# EAGLE library part AFERO-BL24-01 (library ASR-1)
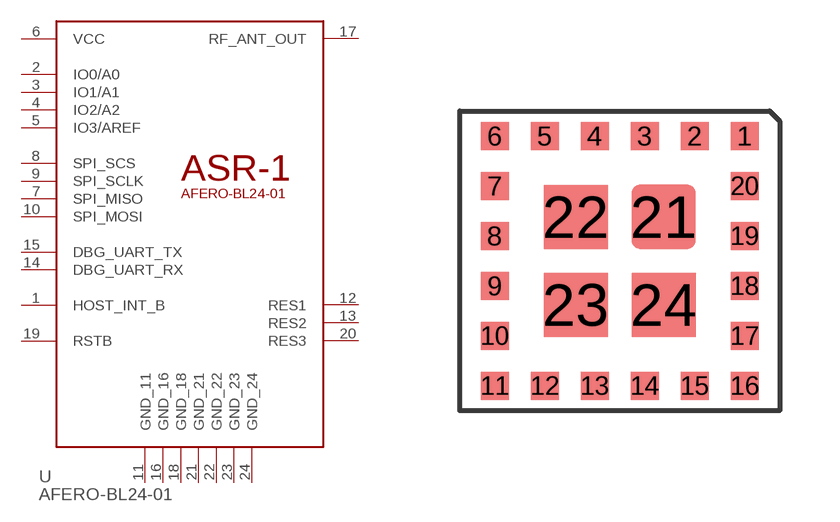
[diagram p0: symbol with the pads of AFERO-BL24-01; footprint AFERO-BL24-01]

Designator prefix -

## AFERO-BL24-01ASR-1  [AFERO-BL24-01]
1  HOST_INT_B
2  IO0/A0
3  IO1/A1
4  IO2/A2
5  IO3/AREF
6  VCC  pwr
7  SPI_MISO
8  SPI_SCS
9  SPI_SCLK
10  SPI_MOSI
11  GND_11  pwr
12  RES1
13  RES2
14  DBG_UART_RX
15  DBG_UART_TX
16  GND_16  pwr
17  RF_ANT_OUT
18  GND_18  pwr
19  RSTB
20  RES3
21  GND_21  pwr
22  GND_22  pwr
23  GND_23  pwr
24  GND_24  pwr

## Footprint AFERO-BL24-01 (pad centres in mm)
smd 0.7 x 0.7: 1 3.125,3.125; 2 1.875,3.125; 3 0.625,3.125; 4 -0.625,3.125; 5 -1.875,3.125; 6 -3.125,3.125; 7 -3.125,1.875; 8 -3.125,0.625; 9 -3.125,-0.625; 10 -3.125,-1.875; 11 -3.125,-3.125; 12 -1.875,-3.125; 13 -0.625,-3.125; 14 0.625,-3.125; 15 1.875,-3.125; 16 3.125,-3.125; 17 3.125,-1.875; 18 3.125,-0.625; 19 3.125,0.625; 20 3.125,1.875
smd 1.6 x 1.6: 21 1.1,1.1; 22 -1.1,1.1; 23 -1.1,-1.1; 24 1.1,-1.1